# Altium schematic symbol library Connectors.SchLib: 1 symbol
Pins are listed as number, name and electrical type; pins without a type are passive.

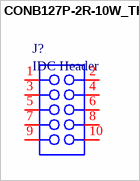
[diagram p0: symbol CONB127P-2R-10W_TH]

## CONB127P-2R-10W_TH
designator J?, comment IDC Header
pins: 1, 2, 3, 4, 5, 6, 7, 8, 9, 10